# EAGLE library part RN-4PJ (library hs-ul)
Noch ein Widerstandsnetzwerk!
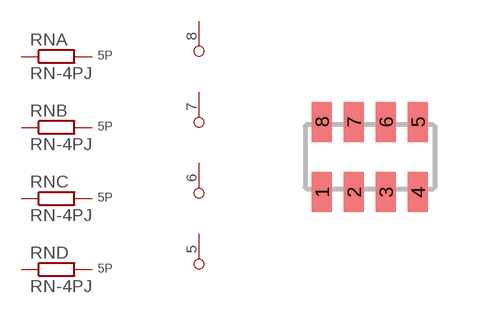
[diagram p4: symbol with the pads of R-4P; footprint R-4P]

Designator prefix RN; gates A=R-EU-EXTRA B=R-EU-EXTRA C=R-EU-EXTRA D=R-EU-EXTRA PA=PIN PB=PIN PC=PIN PD=PIN

## RN-4PJ  [R-4P]
1  A:1  pas
2  B:1  pas
3  C:1  pas
4  D:1  pas
5  PD:P$1  pas
6  PC:P$1  pas
7  PB:P$1  pas
8  PA:P$1  pas

## Footprint R-4P (pad centres in mm)
Widerstandsnetzwerk, 4 parallel, SMD 1206
smd 0.5 x 1: 1 -1.2,-0.88; 2 -0.4,-0.88; 3 0.4,-0.88; 4 1.2,-0.88; 5 1.2,0.88; 6 0.4,0.88; 7 -0.4,0.88; 8 -1.2,0.88